# Altium schematic symbol library Connectors.SchLib: 16 symbols
Pins are listed as number, name and electrical type; pins without a type are passive.

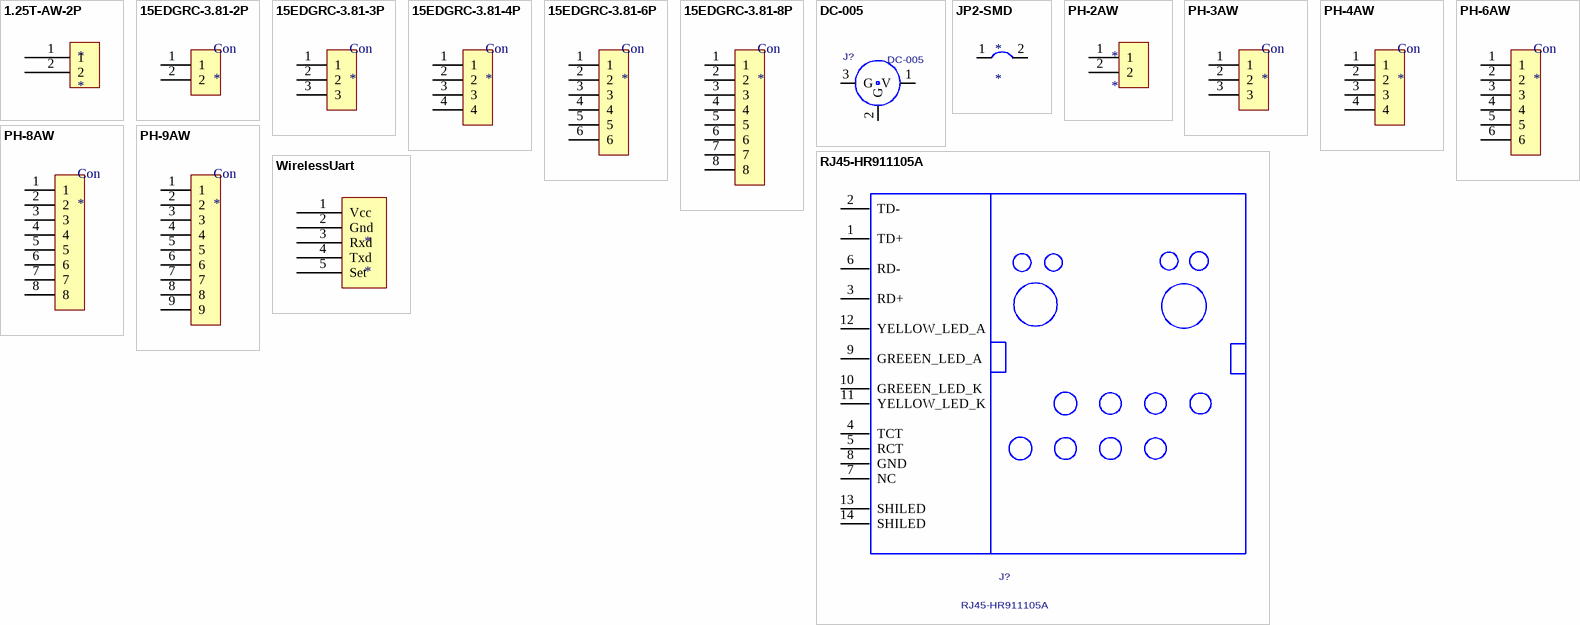
[diagram p0: symbols 1.25T-AW-2P to WirelessUart]

## 1.25T-AW-2P
designator *
footprint 1.25T-2P
pins: 1, 2

## 15EDGRC-3.81-2P
designator Con
footprint 15EDGRC-3.81-2P
pins: 1, 2

## 15EDGRC-3.81-3P
designator Con
footprint 15EDGRC-3.81-3P
pins: 1, 2, 3

## 15EDGRC-3.81-4P
designator Con
footprint 15EDGRC-3.81-4P
pins: 1, 2, 3, 4

## 15EDGRC-3.81-6P
designator Con
footprint 15EDGRC-3.81-6P
pins: 1, 2, 3, 4, 5, 6

## 15EDGRC-3.81-8P
designator Con
footprint 15EDGRC-3.81-8P
pins: 1, 2, 3, 4, 5, 6, 7, 8

## DC-005
designator J?
PCB DECAL: DC-005
footprint DC-005
pins: 1 V, 2 G, 3 G

## JP2-SMD
designator *
footprint JP2-SMD
pins: 1 (power), 2 (power)

## PH-2AW
designator *
footprint PH-2AW
pins: 1, 2

## PH-3AW
designator Con
footprint PH-3AW
pins: 1, 2, 3

## PH-4AW
designator Con
footprint PH-4AW
footprint PH-4-Vertical
pins: 1, 2, 3, 4

## PH-6AW
designator Con
footprint PH-6AW
footprint S6B-PH-K-S
pins: 1, 2, 3, 4, 5, 6

## PH-8AW
designator Con
footprint PH-8AW
pins: 1, 2, 3, 4, 5, 6, 7, 8

## PH-9AW
designator Con
footprint PH-9AW
pins: 1, 2, 3, 4, 5, 6, 7, 8, 9

## RJ45-HR911105A
designator J?
PCB DECAL: RJ45; Value: HR911105A
footprint RJ45
pins: 1 TD+, 2 TD-, 3 RD+, 4 TCT, 5 RCT, 6 RD-, 7 NC, 8 GND, 9 GREEEN_LED_A, 10 GREEEN_LED_K, 11 YELLOW_LED_K, 12 YELLOW_LED_A, 13 SHILED, 14 SHILED

## WirelessUart
designator *
footprint WirelessUart-1
pins: 1 Vcc, 2 Gnd, 3 Rxd, 4 Txd, 5 Set